# Altium schematic symbol library CFR-25JB-52-470K.SchLib: 2 symbols
Pins are listed as number, name and electrical type; pins without a type are passive.

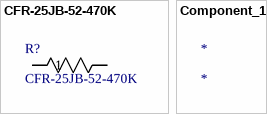
[diagram p0: symbols CFR-25JB-52-470K to Component_1]

## CFR-25JB-52-470K
designator R?
No Description Available; Manufacturer_Name: Yageo; Copyright: Copyright (C) 2026 Ultra Librarian. All rights reserved.; Manufacturer_Part_Number: CFR-25JB-52-470K
footprint YAG_CFR25_YAG
pins: 1, 2

## Component_1
designator *